# EAGLE library part BMI160 (library UserSubmitted)
BMI160 Internal Measurement Unit
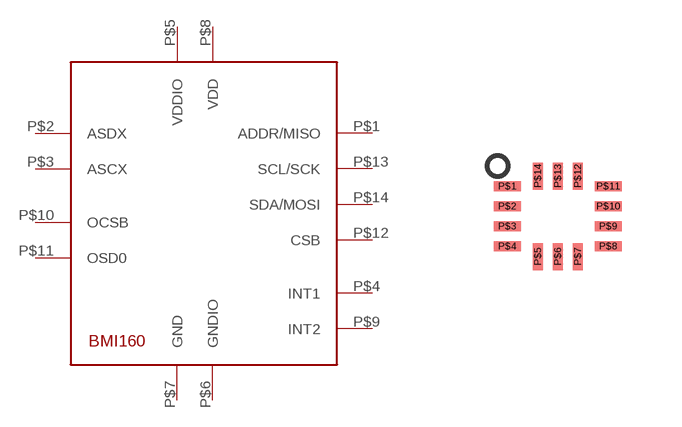
[diagram p2: symbol with the pads of LGA14-BMI160; footprint LGA14-BMI160]

Designator prefix -

## BMI160LGA14  [LGA14-BMI160]
P$1  ADDR/MISO
P$2  ASDX
P$3  ASCX
P$4  INT1
P$5  VDDIO
P$6  GNDIO
P$7  GND
P$8  VDD
P$9  INT2
P$10  OCSB
P$11  OSD0
P$12  CSB
P$13  SCL/SCK
P$14  SDA/MOSI

## Footprint LGA14-BMI160 (pad centres in mm)
smd 0.675 x 0.25: P$1 -1.262,0.75; P$2 -1.262,0.25; P$3 -1.262,-0.25; P$4 -1.262,-0.75; P$8 1.262,-0.75; P$9 1.262,-0.25; P$10 1.262,0.25; P$11 1.262,0.75
smd 0.25 x 0.675: P$5 -0.5,-1.012; P$6 0,-1.012; P$7 0.5,-1.012; P$12 0.5,1; P$13 0,1; P$14 -0.5,1